# Altium schematic symbol library RELAY.SchLib: 2 symbols
Pins are listed as number, name and electrical type; pins without a type are passive.

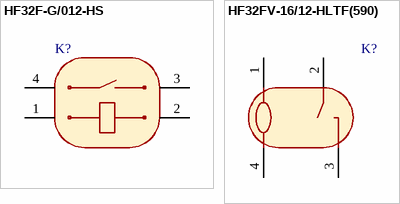
[diagram p0: symbols HF32F-G/012-HS to HF32FV-16/12-HLTF(590)]

## HF32F-G/012-HS
designator K?
pins: 1, 2, 3, 4

## HF32FV-16/12-HLTF(590)
designator K?
pins: 1, 2, 3, 4